# Altium footprint library Chip_Inductor_N.PcbLib: 16 footprints
Each footprint in its own frame and in the unit in brackets; x right, y up, seen from the top. Pads: shape width x height; smd on the part's side, far side on the other; paste and mask are expansions set on the pad; w line width, h text height; cw(c..) or ccw(c..) is an arc to the next point about the centre after c.
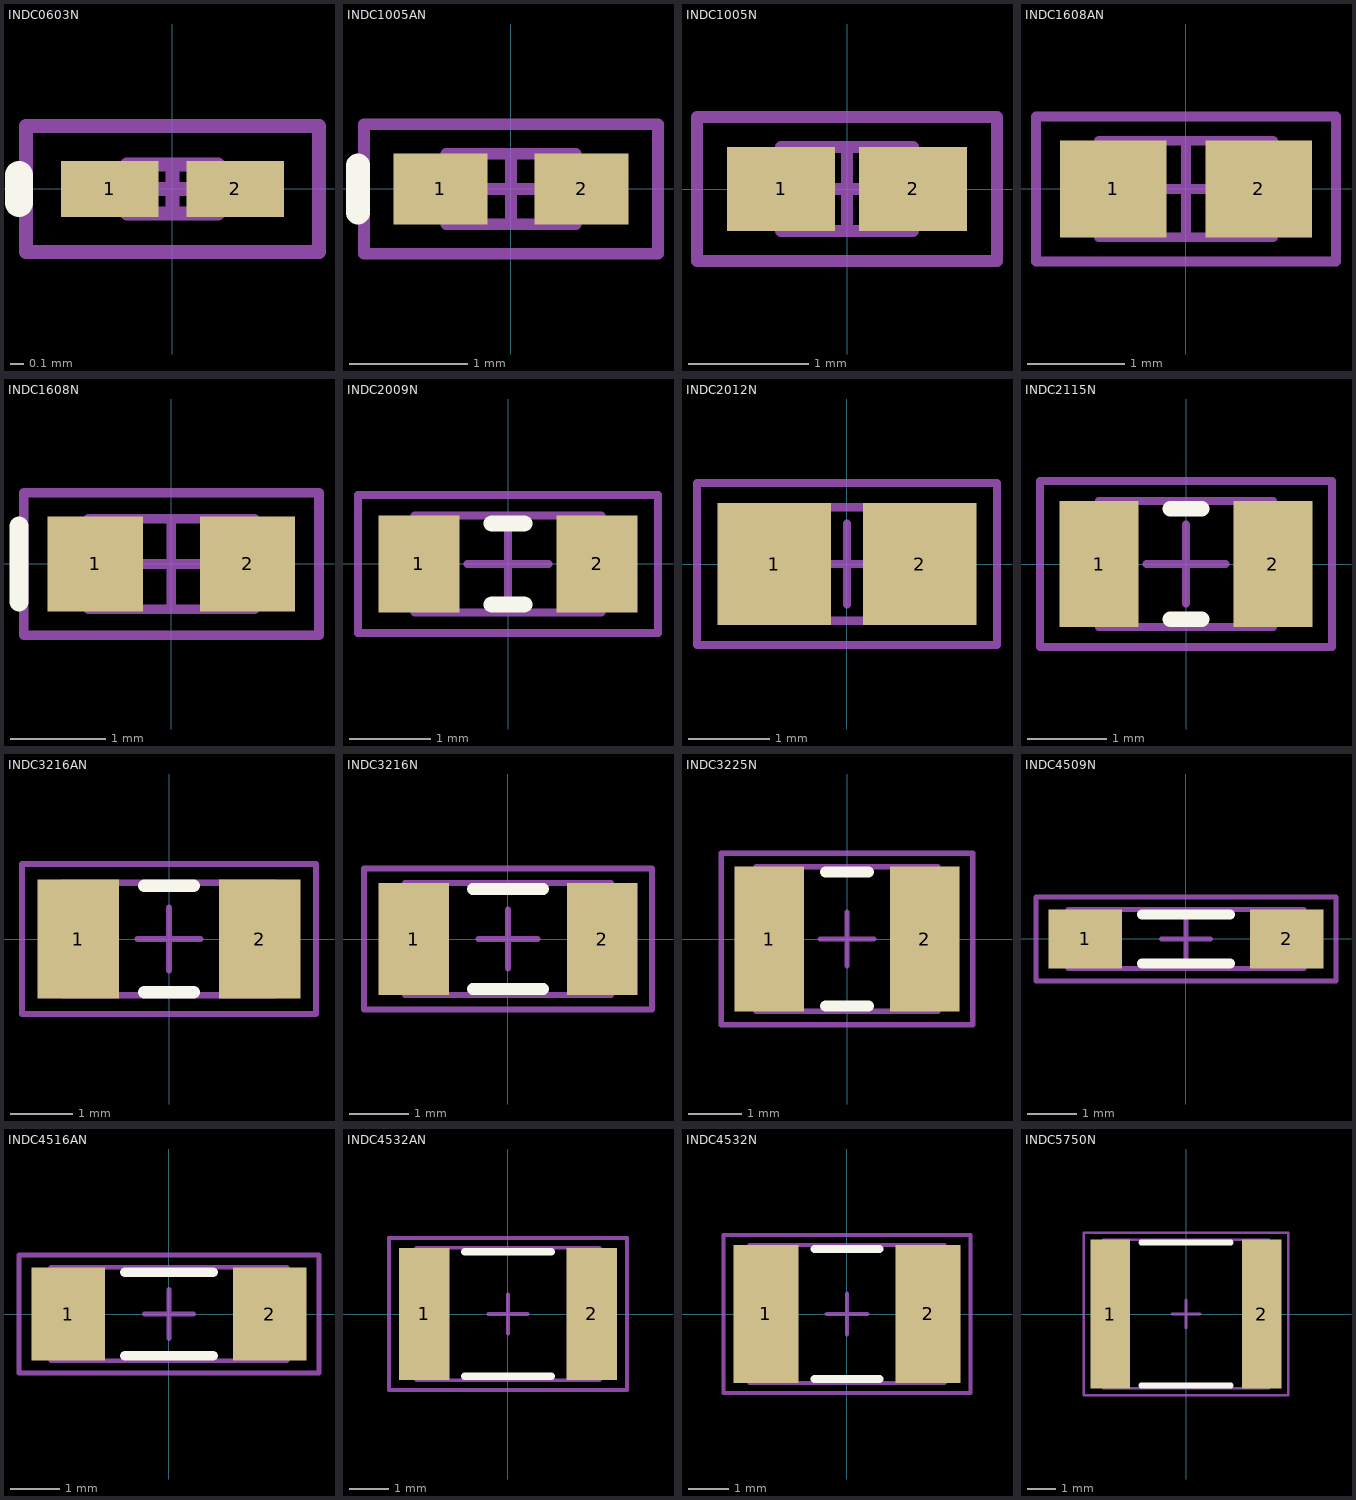
[diagram p0: the footprints below, top view; thin cyan lines are the x and y axes]

## INDC0603N [mm] "Chip Inductor, Body 0.6x0.3mm, IPC Medium Density"
height 0.35
pads (2):
  rect 0.7x0.4 smd: 1(-0.45,0) 2(0.45,0)
Top Overlay:
  lines w0.2: -1.1,-0.1 -1.1,0.1
Mechanical 13:
  lines w0.1: -0.325,-0.175 0.325,-0.175 0.325,0.175 -0.325,0.175 -0.325,-0.175
Mechanical 15:
  lines w0.1: -0.175,0 0.175,0 ; 0,-0.175 0,0.175 ; -1.05,-0.45 1.05,-0.45 1.05,0.45 -1.05,0.45 -1.05,-0.45
3D body: height 0.35, standoff 0, extent -0.325,-0.175 0.325,0.175

## INDC1005AN [mm] "Chip Inductor, Body 1.0x0.5mm, IPC Medium Density"
height 0.55
pads (2):
  rect 0.8x0.6 smd: 1(-0.6,0) 2(0.6,0)
Top Overlay:
  lines w0.2: -1.3,-0.2 -1.3,0.2
Mechanical 13:
  lines w0.1: -0.55,-0.3 -0.55,0.3 0.55,0.3 0.55,-0.3 -0.55,-0.3
Mechanical 15:
  lines w0.1: -0.3,0 0.3,0 ; 0,-0.3 0,0.3 ; -1.25,-0.55 -1.25,0.55 1.25,0.55 1.25,-0.55 -1.25,-0.55
3D body: height 0.55, standoff 0, extent -0.55,-0.3 0.55,0.3

## INDC1005N [mm] "Chip Inductor, Body 1.0x0.5mm, IPC Medium Density"
height 0.6
pads (2):
  rect 0.9x0.7 smd: 1(-0.55,0) 2(0.55,0)
Mechanical 13:
  lines w0.1: -0.55,-0.35 -0.55,0.35 0.55,0.35 0.55,-0.35 -0.55,-0.35
Mechanical 15:
  lines w0.1: -0.35,0 0.35,0 ; 0,-0.35 0,0.35 ; -1.25,-0.6 -1.25,0.6 1.25,0.6 1.25,-0.6 -1.25,-0.6
3D body: height 0.6, standoff 0, extent -0.55,-0.35 0.55,0.35

## INDC1608AN [mm] "Chip Inductor, Body 1.6x0.8mm, IPC Medium Density"
height 1
pads (2):
  rect 1.1x1 smd: 1(-0.75,0) 2(0.75,0)
Mechanical 13:
  lines w0.1: -0.9,-0.5 -0.9,0.5 0.9,0.5 0.9,-0.5 -0.9,-0.5
Mechanical 15:
  lines w0.1: -0.5,0 0.5,0 ; 0,-0.5 0,0.5 ; -1.55,-0.75 -1.55,0.75 1.55,0.75 1.55,-0.75 -1.55,-0.75
3D body: height 1, standoff 0, extent -0.9,-0.5 0.9,0.5

## INDC1608N [mm] "Chip Inductor, Body 1.6x0.8mm, IPC Medium Density"
height 0.71
pads (2):
  rect 1x1 smd: 1(-0.8,0) 2(0.8,0)
Top Overlay:
  lines w0.2: -1.6,-0.4 -1.6,0.4
Mechanical 13:
  lines w0.1: -0.875,-0.475 0.875,-0.475 0.875,0.475 -0.875,0.475 -0.875,-0.475
Mechanical 15:
  lines w0.1: -0.475,0 0.475,0 ; 0,-0.475 0,0.475 ; -1.55,-0.75 1.55,-0.75 1.55,0.75 -1.55,0.75 -1.55,-0.75
3D body: height 0.71, standoff 0, extent -0.875,-0.475 0.875,0.475

## INDC2009N [mm] "Chip Inductor, Body 2.0x0.9mm, IPC Medium Density"
height 1.2
pads (2):
  rect 1x1.2 smd: 1(-1.1,0) 2(1.1,0)
Top Overlay:
  lines w0.2: -0.2,-0.5 0.2,-0.5 ; -0.2,0.5 0.2,0.5
Mechanical 13:
  lines w0.1: -1.15,-0.6 1.15,-0.6 1.15,0.6 -1.15,0.6 -1.15,-0.6
Mechanical 15:
  lines w0.1: -0.5,0 0.5,0 ; 0,-0.5 0,0.5 ; -1.85,-0.85 1.85,-0.85 1.85,0.85 -1.85,0.85 -1.85,-0.85
3D body: height 1.2, standoff 0, extent -1.15,-0.6 1.15,0.6

## INDC2012N [mm] "Chip Inductor, Body 2.0x1.2mm, IPC Medium Density"
height 1.1
pads (2):
  rect 1.4x1.5 smd: 1(-0.9,0) 2(0.9,0)
Mechanical 13:
  lines w0.1: -1.1,-0.7 1.1,-0.7 1.1,0.7 -1.1,0.7 -1.1,-0.7
Mechanical 15:
  lines w0.1: -0.5,0 0.5,0 ; 0,-0.5 0,0.5 ; -1.85,-1 1.85,-1 1.85,1 -1.85,1 -1.85,-1
3D body: height 1.1, standoff 0, extent -1.1,-0.7 1.1,0.7

## INDC2115N [mm] "Chip Inductor, Body 2.1x1.5mm, IPC Medium Density"
height 1.04
pads (2):
  rect 1x1.6 smd: 1(-1.1,0) 2(1.1,0)
Top Overlay:
  lines w0.2: -0.2,-0.7 0.2,-0.7 ; -0.2,0.7 0.2,0.7
Mechanical 13:
  lines w0.1: -1.105,-0.8 1.105,-0.8 1.105,0.8 -1.105,0.8 -1.105,-0.8
Mechanical 15:
  lines w0.1: -0.5,0 0.5,0 ; 0,-0.5 0,0.5 ; -1.85,-1.05 1.85,-1.05 1.85,1.05 -1.85,1.05 -1.85,-1.05
3D body: height 1.04, standoff 0, extent -1.105,-0.8 1.105,0.8

## INDC3216AN [mm] "Chip Inductor, Body 3.2x1.6mm, IPC Medium Density"
height 1.3
pads (2):
  rect 1.3x1.9 smd: 1(-1.45,0) 2(1.45,0)
Top Overlay:
  lines w0.2: -0.4,-0.85 0.4,-0.85 ; -0.4,0.85 0.4,0.85
Mechanical 13:
  lines w0.1: -1.7,-0.9 1.7,-0.9 1.7,0.9 -1.7,0.9 -1.7,-0.9
Mechanical 15:
  lines w0.1: -0.5,0 0.5,0 ; 0,-0.5 0,0.5 ; -2.35,-1.2 2.35,-1.2 2.35,1.2 -2.35,1.2 -2.35,-1.2
3D body: height 1.3, standoff 0, extent -1.7,-0.9 1.7,0.9

## INDC3216N [mm] "Chip Inductor, Body 3.2x1.6mm, IPC Medium Density"
height 1.9
pads (2):
  rect 1.2x1.9 smd: 1(-1.6,0) 2(1.6,0)
Top Overlay:
  lines w0.2: -0.6,-0.85 0.6,-0.85 ; -0.6,0.85 0.6,0.85
Mechanical 13:
  lines w0.1: -1.75,-0.95 1.75,-0.95 1.75,0.95 -1.75,0.95 -1.75,-0.95
Mechanical 15:
  lines w0.1: -0.5,0 0.5,0 ; 0,-0.5 0,0.5 ; -2.45,-1.2 2.45,-1.2 2.45,1.2 -2.45,1.2 -2.45,-1.2
3D body: height 1.9, standoff 0, extent -1.75,-0.95 1.75,0.95

## INDC3225N [mm] "Chip Inductor, Body 3.2x2.5mm, IPC Medium Density"
height 1.5
pads (2):
  rect 1.3x2.7 smd: 1(-1.45,0) 2(1.45,0)
Top Overlay:
  lines w0.2: -0.4,-1.25 0.4,-1.25 ; -0.4,1.25 0.4,1.25
Mechanical 13:
  lines w0.1: -1.7,-1.35 1.7,-1.35 1.7,1.35 -1.7,1.35 -1.7,-1.35
Mechanical 15:
  lines w0.1: -0.5,0 0.5,0 ; 0,-0.5 0,0.5 ; -2.35,-1.6 2.35,-1.6 2.35,1.6 -2.35,1.6 -2.35,-1.6
3D body: height 1.5, standoff 0, extent -1.7,-1.35 1.7,1.35

## INDC4509N [mm] "Chip Inductor, Body 4.5x0.9mm, IPC Medium Density"
height 1.9
pads (2):
  rect 1.5x1.2 smd: 1(-2.05,0) 2(2.05,0)
Top Overlay:
  lines w0.2: -0.9,-0.5 0.9,-0.5 ; -0.9,0.5 0.9,0.5
Mechanical 13:
  lines w0.1: -2.4,-0.6 2.4,-0.6 2.4,0.6 -2.4,0.6 -2.4,-0.6
Mechanical 15:
  lines w0.1: -0.5,0 0.5,0 ; 0,-0.5 0,0.5 ; -3.05,-0.85 3.05,-0.85 3.05,0.85 -3.05,0.85 -3.05,-0.85
3D body: height 1.9, standoff 0, extent -2.4,-0.6 2.4,0.6

## INDC4516AN [mm] "Chip Inductor, Body 4.5x1.6mm, IPC Medium Density"
height 1.8
pads (2):
  rect 1.5x1.9 smd: 1(-2.05,0) 2(2.05,0)
Top Overlay:
  lines w0.2: -0.9,-0.85 0.9,-0.85 ; -0.9,0.85 0.9,0.85
Mechanical 13:
  lines w0.1: -2.4,-0.95 2.4,-0.95 2.4,0.95 -2.4,0.95 -2.4,-0.95
Mechanical 15:
  lines w0.1: -0.5,0 0.5,0 ; 0,-0.5 0,0.5 ; -3.05,-1.2 3.05,-1.2 3.05,1.2 -3.05,1.2 -3.05,-1.2
3D body: height 1.8, standoff 0, extent -2.4,-0.95 2.4,0.95

## INDC4532AN [mm] "Chip Inductor, Body 4.5x3.2mm, IPC Medium Density"
height 1.7
pads (2):
  rect 1.3x3.4 smd: 1(-2.15,0) 2(2.15,0)
Top Overlay:
  lines w0.2: -1.1,-1.6 1.1,-1.6 ; -1.1,1.6 1.1,1.6
Mechanical 13:
  lines w0.1: -2.35,-1.7 2.35,-1.7 2.35,1.7 -2.35,1.7 -2.35,-1.7
Mechanical 15:
  lines w0.1: -0.5,0 0.5,0 ; 0,-0.5 0,0.5 ; -3.05,-1.95 3.05,-1.95 3.05,1.95 -3.05,1.95 -3.05,-1.95
3D body: height 1.7, standoff 0, extent -2.35,-1.7 2.35,1.7

## INDC4532N [mm] "Chip Inductor, Body 4.5x3.2mm, IPC Medium Density"
height 1.35
pads (2):
  rect 1.6x3.4 smd: 1(-2,0) 2(2,0)
Top Overlay:
  lines w0.2: -0.8,-1.6 0.8,-1.6 ; -0.8,1.6 0.8,1.6
Mechanical 13:
  lines w0.1: -2.4,-1.7 2.4,-1.7 2.4,1.7 -2.4,1.7 -2.4,-1.7
Mechanical 15:
  lines w0.1: -0.5,0 0.5,0 ; 0,-0.5 0,0.5 ; -3.05,-1.95 3.05,-1.95 3.05,1.95 -3.05,1.95 -3.05,-1.95
3D body: height 1.35, standoff 0, extent -2.4,-1.7 2.4,1.7

## INDC5750N [mm] "Chip Inductor, Body 5.7x5.0mm, IPC Medium Density"
height 1.9
pads (2):
  rect 1.4x5.3 smd: 1(-2.7,0) 2(2.7,0)
Top Overlay:
  lines w0.2: -1.6,-2.55 1.6,-2.55 ; -1.6,2.55 1.6,2.55
Mechanical 13:
  lines w0.1: -2.95,-2.65 2.95,-2.65 2.95,2.65 -2.95,2.65 -2.95,-2.65
Mechanical 15:
  lines w0.1: -0.5,0 0.5,0 ; 0,-0.5 0,0.5 ; -3.65,-2.9 3.65,-2.9 3.65,2.9 -3.65,2.9 -3.65,-2.9
3D body: height 1.9, standoff 0, extent -2.95,-2.65 2.95,2.65